# Altium schematic symbol library bq79600pwrq1.SchLib: 1 symbol
Pins are listed as number, name and electrical type; pins without a type are passive.

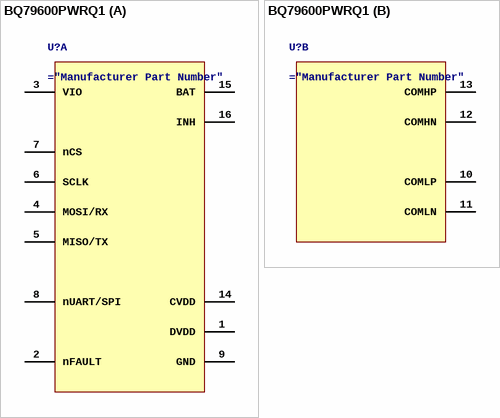
[diagram p0: symbol BQ79600PWRQ1]

## BQ79600PWRQ1
designator U?
Automotive SPI/UART communication interface functional-safety compliant with automatic host wakeup
part A pins: 1 DVDD, 2 nFAULT, 3 VIO, 4 MOSI/RX, 5 MISO/TX, 6 SCLK, 7 nCS, 8 nUART/SPI, 9 GND, 14 CVDD, 15 BAT, 16 INH
part B pins: 10 COMLP, 11 COMLN, 12 COMHN, 13 COMHP